# Altium footprint library Control_unit.PcbLib: 34 footprints (part 3 of 3)
Each footprint in its own frame and in the unit in brackets; x right, y up, seen from the top. Pads: shape width x height; smd on the part's side, far side on the other; paste and mask are expansions set on the pad; w line width, h text height; cw(c..) or ccw(c..) is an arc to the next point about the centre after c.
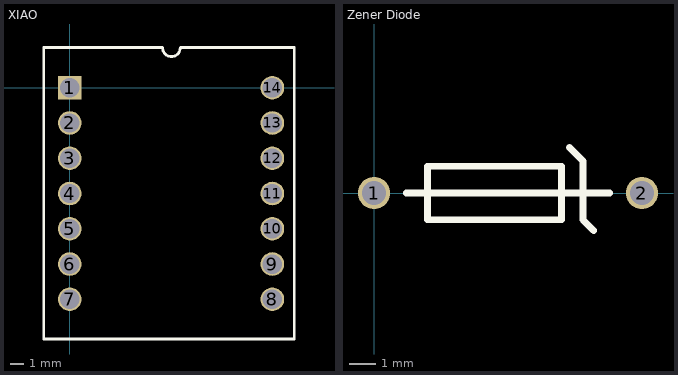
[diagram p2: the footprints below, top view; thin cyan lines are the x and y axes]

## XIAO [mm]
pads (14):
  rect 1.7x1.7 hole 1.4: 1(0,0)
  round 1.7 hole 1.4: 2(0,-2.54) 3(0,-5.08) 4(0,-7.62) 5(0,-10.16) 6(0,-12.7) 7(0,-15.24) 8(14.6,-15.24) 9(14.6,-12.7) 10(14.6,-10.16) 11(14.6,-7.62) 12(14.6,-5.08) 13(14.6,-2.54) 14(14.6,0)
Top Overlay:
  lines w0.2: -1.875,2.9 -1.875,-18.1 16.175,-18.1 16.175,2.895 7.975,2.895 ; -1.8,2.895 6.675,2.895 ; 6.69,2.875 ccw(c7.325,2.875) 7.96,2.875

## Zener Diode [mm]
pads (2):
  round 1.2 hole 0.9: 1(0,0) 2(10,0)
Top Overlay:
  lines w0.254: 1.2,0 8.8,0 ; 7.3,1.7 7.8,1.2 7.8,1.1 7.8,-1 8.2,-1.4 ; 2,-1 7,-1 7,1 2,1 2,-1